# EAGLE library part CD40109BPW (library CD40109BPW)
CMOS Quad low to high Voltage level shifter
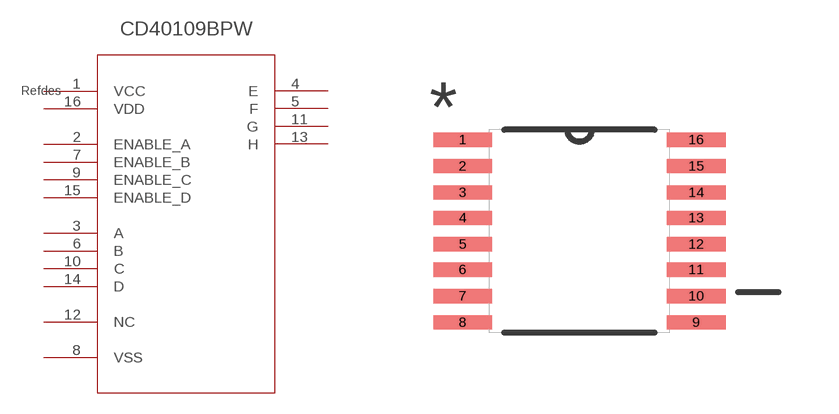
[diagram p0: symbol with the pads of SOP65P640X120-16N; footprint SOP65P640X120-16N]

Designator prefix U

## CD40109BPW (MPN: CD40109BPW; OC_FARNELL: 1741425; OC_NEWARK: -; PACKAGE: TSSOP-16; SUPPLIER: Texas Instruments)  [SOP65P640X120-16N]
1  VCC  pwr
2  ENABLE_A  in
3  A  in
4  E  out
5  F  out
6  B  in
7  ENABLE_B  in
8  VSS  in
9  ENABLE_C  in
10  C  in
11  G  out
12  NC  in
13  H  out
14  D  in
15  ENABLE_D  in
16  VDD  pwr

## Footprint SOP65P640X120-16N (pad centres in mm)
smd 1.473 x 0.356: 1 -2.921,2.286; 2 -2.921,1.626; 3 -2.921,0.965; 4 -2.921,0.33; 5 -2.921,-0.33; 6 -2.921,-0.965; 7 -2.921,-1.626; 8 -2.921,-2.286; 9 2.921,-2.286; 10 2.921,-1.626; 11 2.921,-0.965; 12 2.921,-0.33; 13 2.921,0.33; 14 2.921,0.965; 15 2.921,1.626; 16 2.921,2.286